# Altium footprint library SM_PQFP-128.PcbLib: 1 footprints
Each footprint in its own frame and in the unit in brackets; x right, y up, seen from the top. Pads: shape width x height; smd on the part's side, far side on the other; paste and mask are expansions set on the pad; w line width, h text height; cw(c..) or ccw(c..) is an arc to the next point about the centre after c.
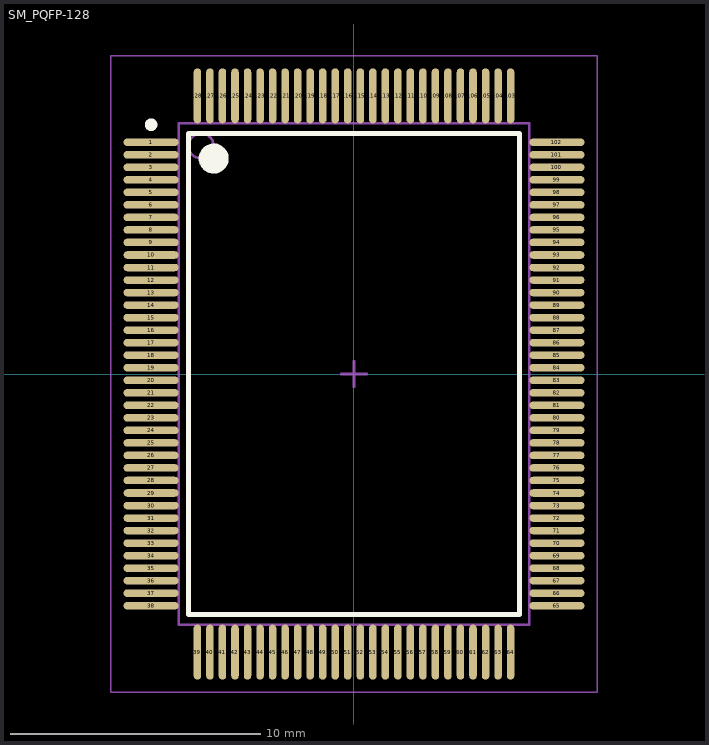
[diagram p0: the footprint, top view; thin cyan lines are the x and y axes]

## SM_PQFP-128 [mm] "MicroChip 5-port Ethernet switch"
pads (128):
  oval 2.2x0.3 smd: 1(-8.1,9.25) 2(-8.1,8.75) 3(-8.1,8.25) 4(-8.1,7.75) 5(-8.1,7.25) 6(-8.1,6.75) 7(-8.1,6.25) 8(-8.1,5.75) 9(-8.1,5.25) 10(-8.1,4.75) 11(-8.1,4.25) 12(-8.1,3.75) 13(-8.1,3.25) 14(-8.1,2.75) 15(-8.1,2.25) 16(-8.1,1.75) 17(-8.1,1.25) 18(-8.1,0.75) 19(-8.1,0.25) 20(-8.1,-0.25) 21(-8.1,-0.75) 22(-8.1,-1.25) 23(-8.1,-1.75) 24(-8.1,-2.25) 25(-8.1,-2.75) 26(-8.1,-3.25) 27(-8.1,-3.75) 28(-8.1,-4.25) 29(-8.1,-4.75) 30(-8.1,-5.25) 31(-8.1,-5.75) 32(-8.1,-6.25) 33(-8.1,-6.75) 34(-8.1,-7.25) 35(-8.1,-7.75) 36(-8.1,-8.25) 37(-8.1,-8.75) 38(-8.1,-9.25) 65(8.1,-9.25) 66(8.1,-8.75) 67(8.1,-8.25) 68(8.1,-7.75) 69(8.1,-7.25) 70(8.1,-6.75) 71(8.1,-6.25) 72(8.1,-5.75) 73(8.1,-5.25) 74(8.1,-4.75) 75(8.1,-4.25) 76(8.1,-3.75) 77(8.1,-3.25) 78(8.1,-2.75) 79(8.1,-2.25) 80(8.1,-1.75) 81(8.1,-1.25) 82(8.1,-0.75) 83(8.1,-0.25) 84(8.1,0.25) 85(8.1,0.75) 86(8.1,1.25) 87(8.1,1.75) 88(8.1,2.25) 89(8.1,2.75) 90(8.1,3.25) 91(8.1,3.75) 92(8.1,4.25) 93(8.1,4.75) 94(8.1,5.25) 95(8.1,5.75) 96(8.1,6.25) 97(8.1,6.75) 98(8.1,7.25) 99(8.1,7.75) 100(8.1,8.25) 101(8.1,8.75) 102(8.1,9.25)
  oval 0.3x2.2 smd: 39(-6.25,-11.1) 40(-5.75,-11.1) 41(-5.25,-11.1) 42(-4.75,-11.1) 43(-4.25,-11.1) 44(-3.75,-11.1) 45(-3.25,-11.1) 46(-2.75,-11.1) 47(-2.25,-11.1) 48(-1.75,-11.1) 49(-1.25,-11.1) 50(-0.75,-11.1) 51(-0.25,-11.1) 52(0.25,-11.1) 53(0.75,-11.1) 54(1.25,-11.1) 55(1.75,-11.1) 56(2.25,-11.1) 57(2.75,-11.1) 58(3.25,-11.1) 59(3.75,-11.1) 60(4.25,-11.1) 61(4.75,-11.1) 62(5.25,-11.1) 63(5.75,-11.1) 64(6.25,-11.1) 103(6.25,11.1) 104(5.75,11.1) 105(5.25,11.1) 106(4.75,11.1) 107(4.25,11.1) 108(3.75,11.1) 109(3.25,11.1) 110(2.75,11.1) 111(2.25,11.1) 112(1.75,11.1) 113(1.25,11.1) 114(0.75,11.1) 115(0.25,11.1) 116(-0.25,11.1) 117(-0.75,11.1) 118(-1.25,11.1) 119(-1.75,11.1) 120(-2.25,11.1) 121(-2.75,11.1) 122(-3.25,11.1) 123(-3.75,11.1) 124(-4.25,11.1) 125(-4.75,11.1) 126(-5.25,11.1) 127(-5.75,11.1) 128(-6.25,11.1)
Top Overlay:
  circle w0.6: c-5.6,8.6 r0.3
  circle w0.25: c-8.1,9.95 r0.125
  lines w0.2: -6.6,-9.6 6.6,-9.6 6.6,9.6 -6.6,9.6 -6.6,-9.6
Mechanical 13:
  circle w0.1: c-6.1,9.1 r0.5
  lines w0.1: -7,-10 7,-10 7,10 -7,10 -7,-10
Mechanical 15:
  lines w0.05: -9.7,-12.7 9.7,-12.7 9.7,12.7 -9.7,12.7 -9.7,-12.7
  lines w0.1: -0.5,0 0.5,0 ; 0,-0.5 0,0.5
3D body: height 3.4, standoff 0.25, extent -7,-10 7,10